# EAGLE library part NP_MOS_2CH (library Eagle_CAD_parts)
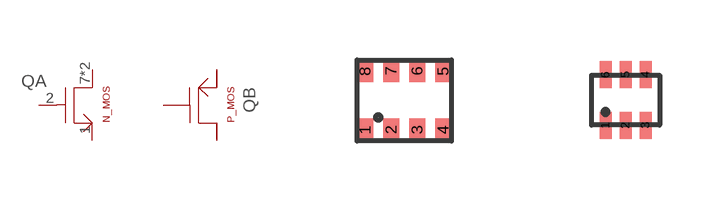
[diagram p47: symbol with the pads of 1206-8_CHIP_FET; footprints 1206-8_CHIP_FET, SOT563]

Designator prefix Q; gates A=N_MOS B=P_MOS

## NP_MOS_2CH_SI5515CDC (DIGIKEY_PART_NUMBER: SI5515CDC-T1-E3CT-ND; ID: 4A; MANUFACTURER_PART_NUMBER: SI5515CDC-T1-E3; VDSS: 20V)  [1206-8_CHIP_FET]
1  A:S  pas
2  A:G  pas
3  B:S  pas
4  B:G  pas
5  B:D  pas
6  B:D  pas
7  A:D  pas
8  A:D  pas

## NP_MOS_2CH_DMG1029SV (DIGIKEY_PART_NUMBER: DMG1029SV-7DICT-ND; ID: 500 mA; MANUFACTURER_PART_NUMBER: DMG1029SV-7; VDSS: 60V)  [SOT563]
1  A:S  pas
2  A:G  pas
3  B:D  pas
4  B:S  pas
5  B:G  pas
6  A:D  pas

## NP_MOS_2CH_SIA519EDJ (DIGIKEY_PART_NUMBER: SIA519EDJ-T1-GE3CT-ND; ID: 4.5 A; MANUFACTURER_PART_NUMBER: SIA519EDJ-T1-GE3; VDS: 20 V; VGS_TH: 0.6V ~ 1.4V)  [SC70-6L_DUAL]
1  A:S  pas
2  A:G  pas
3  B:D  pas
4  B:S  pas
5  B:G  pas
6  A:D  pas
7  A:D  pas
8  B:D  pas

## NP_MOS_2CH_QS8M51 (DIGIKEY_PART_NUMBER: QS8M51CT-ND; ID: 1.5A; MANUFACTURER_PART_NUMBER: QS8M51TR; VDS: 100 V; VGS_TH: 1V ~ 2.5V)  [TSMT8]
Pads as for 1206-8_CHIP_FET

## Footprint 1206-8_CHIP_FET (pad centres in mm)
smd 0.406 x 0.559: 1 -0.975,-0.736; 2 -0.326,-0.736; 3 0.325,-0.737; 4 0.975,-0.737; 5 0.974,0.735; 6 0.325,0.735; 7 -0.327,0.736; 8 -0.976,0.736

## Footprint SOT563 (pad centres in mm)
smd 0.3 x 0.67: 1 -0.5,-0.635; 2 0,-0.635; 3 0.5,-0.635; 4 0.5,0.635; 5 0,0.635; 6 -0.5,0.635

## Footprint SC70-6L_DUAL (pad centres in mm)
smd 0.3 x 0.325: 1 -0.65,-0.9; 2 0,-0.9; 3 0.65,-0.9; 4 0.65,0.9; 5 0,0.9; 6 -0.65,0.9
smd 0.613 x 0.95: 7 -0.467,0; 8 0.467,0

## Footprint TSMT8 (pad centres in mm)
smd 0.47 x 0.49: 1 -0.975,-1.205; 2 -0.325,-1.205; 3 0.325,-1.205; 4 0.975,-1.205; 5 0.975,1.205; 6 0.325,1.205; 7 -0.325,1.205; 8 -0.975,1.205